# EAGLE library part AP2553 (library Diodes)
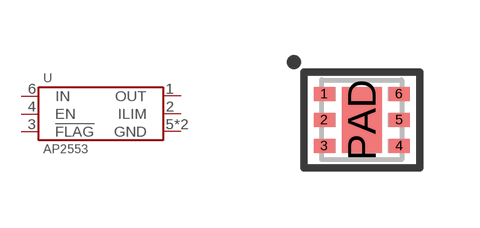
[diagram p1: symbol with the pads of UDFN6-2020; footprint UDFN6-2020]

Designator prefix U

## AP2553FDC-7  [UDFN6-2020]
1  OUT
2  ILIM
3  !FLAG
4  EN
5  GND
6  IN
PAD  GND

## Footprint UDFN6-2020 (pad centres in mm)
smd 0.525 x 0.35: 1 -0.938,0.65; 2 -0.938,0; 3 -0.938,-0.65; 4 0.938,-0.65; 5 0.938,0; 6 0.938,0.65
smd 1 x 1.65: PAD 0,0